# EAGLE library part IN-19B (library russian-nixies)
IN-19B: medium symbol frontview nixie tube
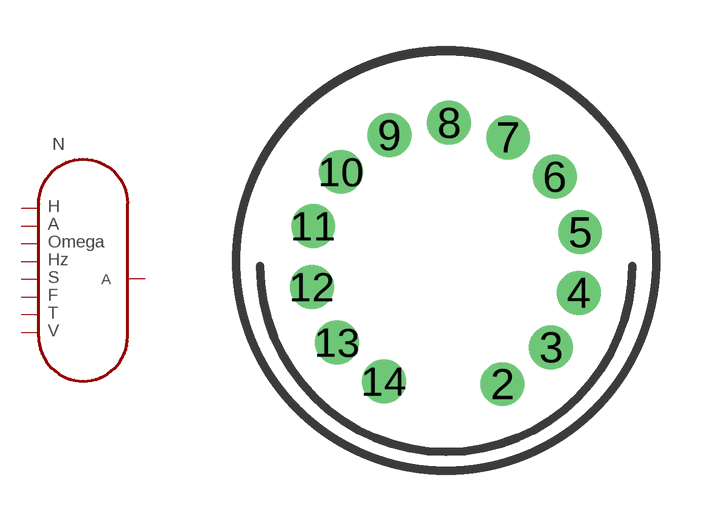
[diagram p9: symbol with the pads of IN-19; footprint IN-19]

Designator prefix N

## IN-19B  [IN-19]
2  P$5
4  P$6
5  P$1
6  P$8
8  A
10  P$7
11  P$2
12  P$3
14  P$4

## Footprint IN-19 (pad centres in mm)
drill 0.84: 2 1.733,-3.786; 3 3.222,-2.652; 4 4.072,-0.985; 5 4.114,0.886; 6 3.34,2.59; 7 1.903,3.79; 8 0.089,4.247; 9 -1.745,3.872; 10 -3.234,2.738; 11 -4.084,1.07; 12 -4.126,-0.801; 13 -3.352,-2.505; 14 -1.915,-3.704